# Altium footprint library Passive.PcbLib: 33 footprints (part 3 of 3)
Each footprint in its own frame and in the unit in brackets; x right, y up, seen from the top. Pads: shape width x height; smd on the part's side, far side on the other; paste and mask are expansions set on the pad; w line width, h text height; cw(c..) or ccw(c..) is an arc to the next point about the centre after c.
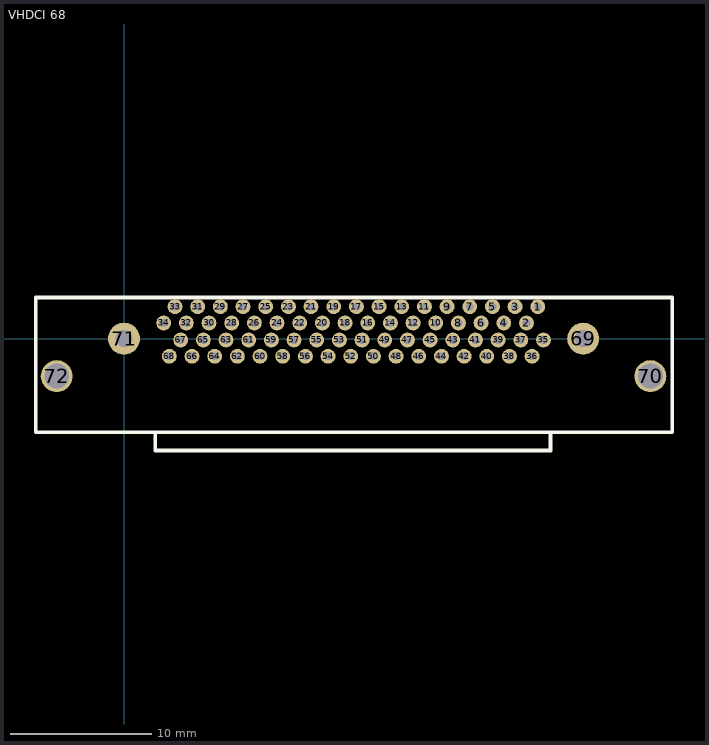
[diagram p2: the footprint, top view; thin cyan lines are the x and y axes]

## VHDCI 68 [mm]
pads (72):
  round 1.05 hole 0.55: 1(29.2,2.25) 2(28.4,1.1) 3(27.6,2.25) 4(26.8,1.1) 5(26,2.25) 6(25.2,1.1) 7(24.4,2.25) 8(23.6,1.1) 9(22.8,2.25) 10(22,1.1) 11(21.2,2.25) 12(20.4,1.1) 13(19.6,2.25) 14(18.8,1.1) 15(18,2.25) 16(17.2,1.1) 17(16.4,2.25) 18(15.6,1.1) 19(14.8,2.25) 20(14,1.1) 21(13.2,2.25) 22(12.4,1.1) 23(11.6,2.25) 24(10.8,1.1) 25(10,2.25) 26(9.2,1.1) 27(8.4,2.25) 28(7.6,1.1) 29(6.8,2.25) 30(6,1.1) 31(5.2,2.25) 32(4.4,1.1) 33(3.6,2.25) 34(2.8,1.1) 35(29.6,-0.1) 36(28.8,-1.25) 37(28,-0.1) 38(27.2,-1.25) 39(26.4,-0.1) 40(25.6,-1.25) 41(24.8,-0.1) 42(24,-1.25) 43(23.2,-0.1) 44(22.4,-1.25) 45(21.6,-0.1) 46(20.8,-1.25) 47(20,-0.1) 48(19.2,-1.25) 49(18.4,-0.1) 50(17.6,-1.25) 51(16.8,-0.1) 52(16,-1.25) 53(15.2,-0.1) 54(14.4,-1.25) 55(13.6,-0.1) 56(12.8,-1.25) 57(12,-0.1) 58(11.2,-1.25) 59(10.4,-0.1) 60(9.6,-1.25) 61(8.8,-0.1) 62(8,-1.25) 63(7.2,-0.1) 64(6.4,-1.25) 65(5.6,-0.1) 66(4.8,-1.25) 67(4,-0.1) 68(3.2,-1.25)
  round 2.25 hole 1.2: 69(32.4,0) 71(0,0)
  round 2.25 hole 1.75: 70(37.15,-2.65) 72(-4.75,-2.65)
Top Overlay:
  lines w0.254: 30.1,-6.6 30.1,-7.9 2.2,-7.9 2.2,-6.6 ; 2.2,-6.6 -6.223,-6.6 -6.223,2.9 38.684,2.9 38.684,-6.6 2.2,-6.6